# EAGLE library part CPC2317N (library cpc2317n)
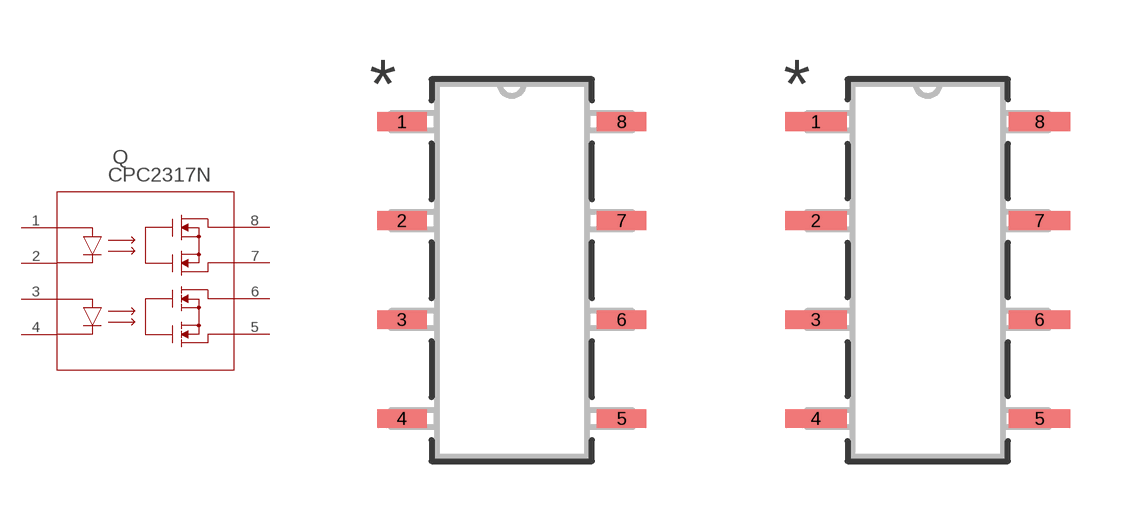
[diagram p0: symbol with the pads of CPC2317N_IXY; footprints CPC2317N_IXY, CPC2317N_IXY-M]

Designator prefix Q

## CPC2317NCPC2317N_IXY (Copyright: Copyright (C) 2023 Ultra Librarian. All rights reserved.; Manufacturer_Part_Number: CPC2317N; Mfr_Name: Littelfuse Inc)  [CPC2317N_IXY]
1  1  pas
2  2  pas
3  3  pas
4  4  pas
5  5  pas
6  6  pas
7  7  pas
8  8  pas

## CPC2317NCPC2317N_IXY-M (Copyright: Copyright (C) 2023 Ultra Librarian. All rights reserved.; Manufacturer_Part_Number: CPC2317N; Mfr_Name: Littelfuse Inc)  [CPC2317N_IXY-M]
Pads as for CPC2317N_IXY

## CPC2317NCPC2317N_IXY-L (Copyright: Copyright (C) 2023 Ultra Librarian. All rights reserved.; Manufacturer_Part_Number: CPC2317N; Mfr_Name: Littelfuse Inc)  [CPC2317N_IXY-L]
Pads as for CPC2317N_IXY

## Footprint CPC2317N_IXY (pad centres in mm)
smd 1.27 x 0.483: 1 -2.819,3.81; 2 -2.819,1.27; 3 -2.819,-1.27; 4 -2.819,-3.81; 5 2.819,-3.81; 6 2.819,-1.27; 7 2.819,1.27; 8 2.819,3.81

## Footprint CPC2317N_IXY-M (pad centres in mm)
smd 1.575 x 0.483: 1 -2.87,3.81; 2 -2.87,1.27; 3 -2.87,-1.27; 4 -2.87,-3.81; 5 2.87,-3.81; 6 2.87,-1.27; 7 2.87,1.27; 8 2.87,3.81

## Footprint CPC2317N_IXY-L (pad centres in mm)
smd 0.965 x 0.432: 1 -2.769,3.81; 2 -2.769,1.27; 3 -2.769,-1.27; 4 -2.769,-3.81; 5 2.769,-3.81; 6 2.769,-1.27; 7 2.769,1.27; 8 2.769,3.81